# EAGLE library part ADA254 (library cwParts)
Adafruit microSD breakout
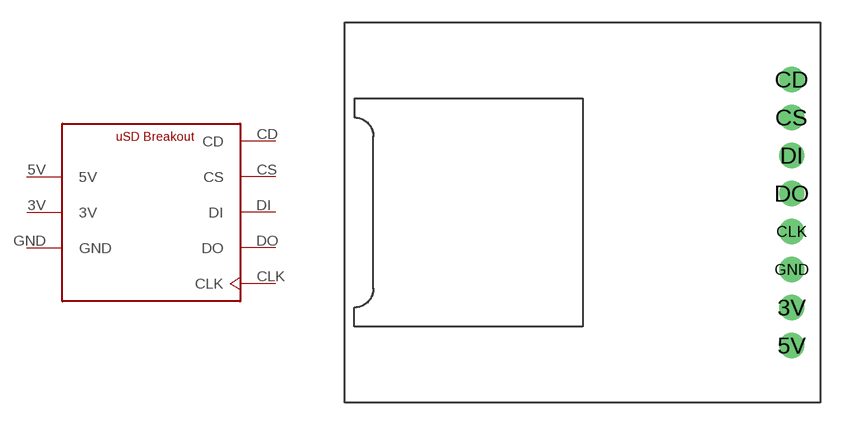
[diagram p0: symbol with the pads of ADA254; footprint ADA254]

Designator prefix SD

## ADA254  [ADA254]
3V  3V  out
5V  5V  pwr
CD  CD
CLK  CLK
CS  CS  in
DI  DI  in
DO  DO  out
GND  GND  pwr

## Footprint ADA254 (pad centres in mm)
drill 1.016 pad 1.676: 3V 13.97,-6.35; 5V 13.97,-8.89; CD 13.97,8.89; CLK 13.97,-1.27; CS 13.97,6.35; DI 13.97,3.81; DO 13.97,1.27; GND 13.97,-3.81